# EAGLE library part ILI9325_2.8TFT (library arducorder-mini)
2.8" TFT Module with ILI9328 Controller, 240x320 resolution
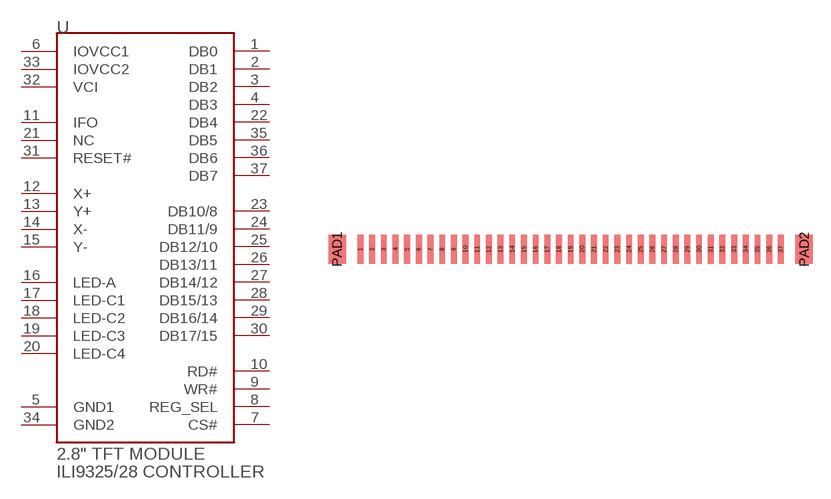
[diagram p21: symbol with the pads of ILI9325_28TFT; footprint ILI9325_28TFT]

Designator prefix -

## ILI9325_2.8TFT  [ILI9325_28TFT]
1  DB0
2  DB1
3  DB2
4  DB3
5  GND1
6  IOVCC1
7  CS#
8  REG_SEL
9  WR#
10  RD#
11  IFO
12  X+
13  Y+
14  X-
15  Y-
16  LED-A
17  LED-C1
18  LED-C2
19  LED-C3
20  LED-C4
21  NC
22  DB4
23  DB10/8
24  DB11/9
25  DB12/10
26  DB13/11
27  DB14/12
28  DB15/13
29  DB16/14
30  DB17/15
31  RESET#
32  VCI
33  IOVCC2
34  GND2
35  DB5
36  DB6
37  DB7

## Footprint ILI9325_28TFT (pad centres in mm)
smd 0.5 x 2.5: 1 -18,0; 2 -17,0; 3 -16,0; 4 -15,0; 5 -14,0; 6 -13,0; 7 -12,0; 8 -11,0; 9 -10,0; 10 -9,0; 11 -8,0; 12 -7,0; 13 -6,0; 14 -5,0; 15 -4,0; 16 -3,0; 17 -2,0; 18 -1,0; 19 0,0; 20 1,0; 21 2,0; 22 3,0; 23 4,0; 24 5,0; 25 6,0; 26 7,0; 27 8,0; 28 9,0; 29 10,0; 30 11,0; 31 12,0; 32 13,0; 33 14,0; 34 15,0; 35 16,0; 36 17,0; 37 18,0
smd 1.5 x 2.5: PAD1 -20,0; PAD2 20,0